# Altium schematic symbol library 1663969.SchLib: 1 symbol
Pins are listed as number, name and electrical type; pins without a type are passive.

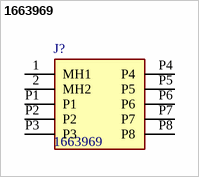
[diagram p0: symbol 1663969]

## 1663969
designator J?
RJ45 PCB connector, number of positions: 8, 100 Mbps; Manufacturer_Name: Phoenix Contact; Geometry.Height: 15.98mm; Mouser Part Number: *; Mouser Price/Stock: *; Manufacturer_Part_Number: 1663969; Datasheet Link: https://www.phoenixcontact.com/en-ae/products/rj45-pcb-connector-cuc-ib4m-j1st-at-r4t-p-1663969
footprint 1663969
pins: 1 MH1, 2 MH2, P1, P2, P3, P4, P5, P6, P7, P8